# EAGLE library part LM2591 (library Radicon)
LM2591HV SIMPLE SWITCHER® Power Converter 150 kHz 1A Step-Down Voltage Regulator
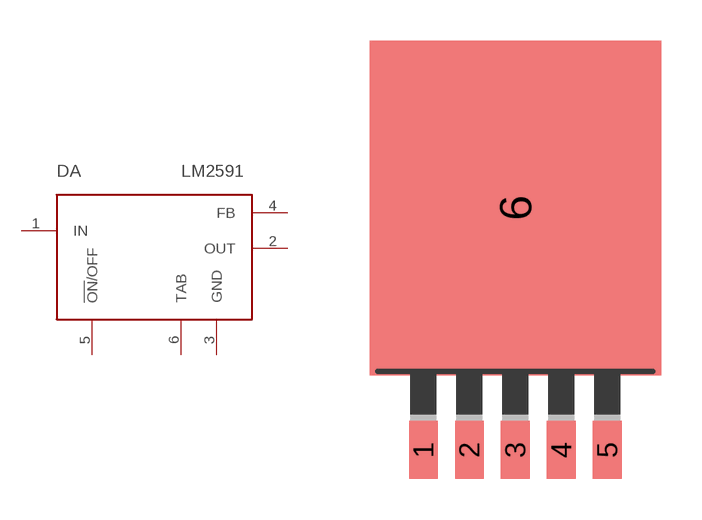
[diagram p42: symbol with the pads of TO263-5; footprint TO263-5]

Designator prefix DA

## LM2591  [TO263-5]
1  IN
2  OUT
3  GND
4  FB
5  !ON!/OFF
6  TAB

## Footprint TO263-5 (pad centres in mm)
TO-263
smd 1.067 x 2.159: 1 -3.404,-5.791; 2 -1.702,-5.791; 3 0,-5.791; 4 1.702,-5.791; 5 3.404,-5.791
smd 10.8 x 12.41: 6 0,3.175